# EAGLE library part TIVALP (library Tiva)
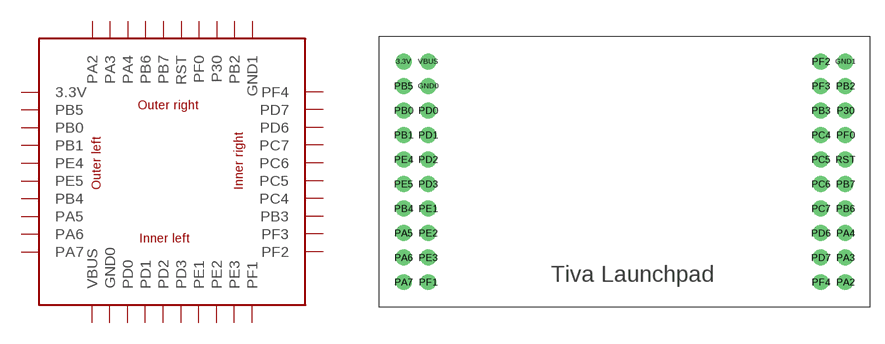
[diagram p0: symbol with the pads of TIVALP; footprint TIVALP]

Designator prefix -

## TIVALP  [TIVALP]
3.3V  3.3V
GND0  GND0
GND1  GND1
P30  P30
PA2  PA2
PA3  PA3
PA4  PA4
PA5  PA5
PA6  PA6
PA7  PA7
PB0  PB0
PB1  PB1
PB2  PB2
PB3  PB3
PB4  PB4
PB5  PB5
PB6  PB6
PB7  PB7
PC4  PC4
PC5  PC5
PC6  PC6
PC7  PC7
PD0  PD0
PD1  PD1
PD2  PD2
PD3  PD3
PD6  PD6
PD7  PD7
PE1  PE1
PE2  PE2
PE3  PE3
PE4  PE4
PE5  PE5
PF0  PF0
PF1  PF1
PF2  PF2
PF3  PF3
PF4  PF4
RST  RST
VBUS  VBUS

## Footprint TIVALP (pad centres in mm)
drill 1.1: 3.3V -22.86,10.16; GND0 -20.32,7.62; GND1 22.86,10.16; P30 22.86,5.08; PA2 22.86,-12.7; PA3 22.86,-10.16; PA4 22.86,-7.62; PA5 -22.86,-7.62; PA6 -22.86,-10.16; PA7 -22.86,-12.7; PB0 -22.86,5.08; PB1 -22.86,2.54; PB2 22.86,7.62; PB3 20.32,5.08; PB4 -22.86,-5.08; PB5 -22.86,7.62; PB6 22.86,-5.08; PB7 22.86,-2.54; PC4 20.32,2.54; PC5 20.32,0; PC6 20.32,-2.54; PC7 20.32,-5.08; PD0 -20.32,5.08; PD1 -20.32,2.54; PD2 -20.32,0; PD3 -20.32,-2.54; PD6 20.32,-7.62; PD7 20.32,-10.16; PE1 -20.32,-5.08; PE2 -20.32,-7.62; PE3 -20.32,-10.16; PE4 -22.86,0; PE5 -22.86,-2.54; PF0 22.86,2.54; PF1 -20.32,-12.7; PF2 20.32,10.16; PF3 20.32,7.62; PF4 20.32,-12.7; RST 22.86,0; VBUS -20.32,10.16